# Altium schematic symbol library a_Valider_PA.SchLib: 5 symbols
Pins are listed as number, name and electrical type; pins without a type are passive.

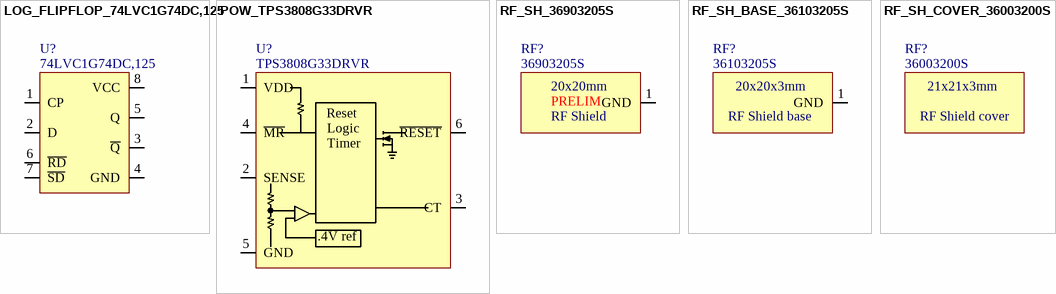
[diagram p0: symbols LOG_FLIPFLOP_74LVC1G74DC,125 to RF_SH_COVER_36003200S]

## LOG_FLIPFLOP_74LVC1G74DC,125
designator U?, comment 74LVC1G74DC,125
LOG_FLIPFLOP - D-Type Flip Flop Bit Positive Edge with asynchronous operation - 8-VSSOP; Manufacturer #1: Nexperia USA Inc.; Voltage Rating: 1.65V ~ 5.5V; Current Rating: 32mA output; Power Max: 300mW; GRAMS Lib Spec: 2.8; Magnetic Material: Unknown; Polarized: Yes; HelpURL: https://assets.nexperia.com/documents/data-sheet/74LVC1G74.pdf; CreatedBy/Date: Philippe Arsenault/2021-04-14; VerifiedBy: Louis-Daniel Gaulin / 16-04-2021; Temperature: -40°C ~ 125°C (TA); Package: VSSOP-8; Assembly Type: SMD; Part Number #1: 74LVC1G74DC,125; Supplier 1: Digi-Key; Supplier Part Number 1: 1727-4029-1-ND
footprint LOG_FLIPFLOP_74LVC1G74DC,125 (VSSOP8)
pins: 1 CP, 2 D, 3 ~{Q}, 4 GND, 5 Q, 6 ~{RD}, 7 ~{SD}, 8 VCC

## POW_TPS3808G33DRVR
designator U?, comment TPS3808G33DRVR
POW - Programmable-Delay Supervisory Circuit Open Drain - 6WSON; Manufacturer #1: Texas Instruments; Voltage Rating: 1.7V ~ 6.5V (VDD); 3.07V TH; Current Rating: 2.4uA; GRAMS Lib Spec: 2.8; Magnetic Material: Unknown; Polarized: Yes; Value: *; Tolerance: *; Power Max: *; HelpURL: http://www.ti.com/lit/ds/symlink/tps3808.pdf; CreatedBy/Date: Philippe Arsenault/2021-04-19; VerifiedBy: Louis-Daniel Gaulin / 29-04-2021; Temperature: -40°C ~ 125°C; Package: 6-WSON; Manufacturer #2: *; Assembly Type: SMD; Part Number #2: *; Part Number #1: TPS3808G33DRVR; Cryo: UNKNOWN; Supplier 1: Digi-Key; Supplier Part Number 1: 296-36792-1-ND
footprint POW_TPS3808G33DRVR (6-WSON)
pins: 1 VDD, 2 SENSE, 3 CT, 4 ~{MR}, 5 GND, 6 ~{RESET}
text: Reset; Logic; Timer; .4V ref

## RF_SH_36903205S
designator RF?, comment 36903205S
RF_SH -  RF COVER 0.787" SNAP FIT; Manufacturer #1: Würth Elektronik; Value: 20x20x3.2mm; GRAMS Lib Spec: 2.8; Magnetic Material: Unknown; Polarized: No; HelpURL: https://www.we-online.de/katalog/datasheet/36903205S.pdf; CreatedBy/Date: Philippe Arsenault/2021-04-17; Temperature: -40°C ~ 125°C; Assembly Type: SMD; Part Number #1: 36903205S; Supplier 1: Digi-Key; Supplier Part Number 1: 732-11191-1-ND
footprint RF_SH_36903205S (RF shield 20x20x3.2)
pins: 1 GND
text: 20x20mm; PRELIM; RF Shield

## RF_SH_BASE_36103205S
designator RF?, comment 36103205S
RF_SH -  BASE RF SHIELD 0.787" X 0.787" SMD; Manufacturer #1: Würth Elektronik; Value: 20x20x3mm; GRAMS Lib Spec: 2.8; Note: Buy with 36003200S; Magnetic Material: Unknown; Polarized: No; HelpURL: https://www.we-online.de/katalog/datasheet/36903205S.pdf; CreatedBy/Date: Philippe Arsenault/2021-04-17; Temperature: -40°C ~ 125°C; Assembly Type: SMD; Part Number #1: 36103205S; Supplier 1: Digi-Key; Supplier Part Number 1: 732-11540-1-ND
footprint RF_SH_36103205S (RF shield 20x20x3 base)
pins: 1 GND
text: RF Shield base

## RF_SH_COVER_36003200S
designator RF?, comment 36003200S  (mechanical)
RF_SH -  RF COVER 0.823" X 0.823" SMD; Manufacturer #1: Würth Elektronik; Value: 21x21x3mm; GRAMS Lib Spec: 2.8; Note: Buy with 36103205S; Magnetic Material: Unknown; Polarized: No; HelpURL: https://www.we-online.de/katalog/datasheet/36903205S.pdf; CreatedBy/Date: Philippe Arsenault/2021-04-17; VerifiedBy: Louis-Daniel Gaulin / 29-04-2021; Temperature: -40°C ~ 125°C; Assembly Type: SMD; Part Number #1: 36003200S; Supplier 1: Newark; Supplier Part Number 1: 37AC1129
footprint RF_SH_36003200S (RF shield 21x21x3 cover)
text: RF Shield cover